# Altium footprint library PcbLib1.PcbLib: 53 footprints (part 1 of 4)
Each footprint in its own frame and in the unit in brackets; x right, y up, seen from the top. Pads: shape width x height; smd on the part's side, far side on the other; paste and mask are expansions set on the pad; w line width, h text height; cw(c..) or ccw(c..) is an arc to the next point about the centre after c.
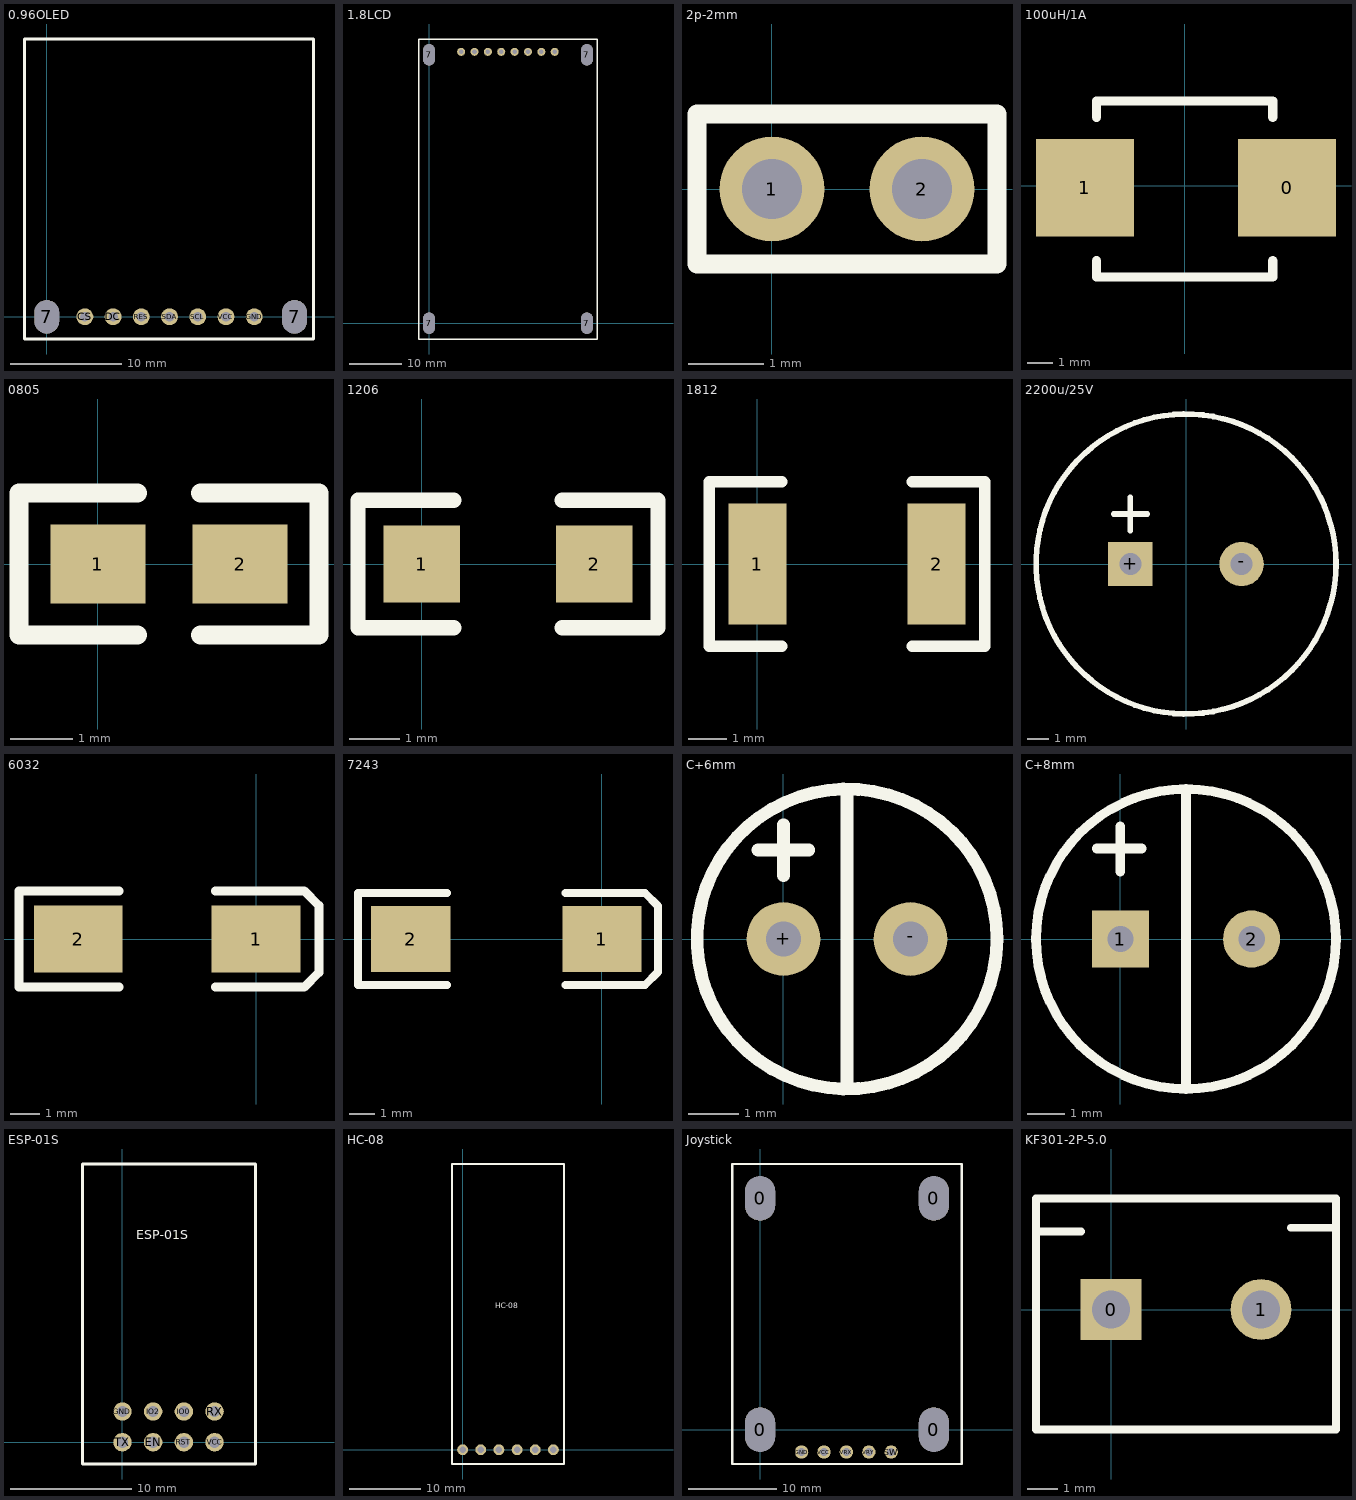
[diagram p0: the footprints below, top view; thin cyan lines are the x and y axes]

## 0.96OLED [mil]
pads (9):
  oval 86.61x118.11 hole 86.61 slot 118.11 at 90 deg: 7(0,0) 7(877.95,0)
  round 60 hole 34: CS(135,0) DC(235,0) GND(735,0) RES(335,0) SCL(535,0) SDA(435,0) VCC(635,0)
Top Overlay:
  lines w10: -78.74,-78.74 -78.74,984.25 944.88,984.25 944.88,-78.74 -78.74,-78.74

## 1.8LCD [mil]
pads (12):
  oval 86.61x157.48 hole 86.61 slot 157.48 at 90 deg: 7(0,0) 7(0,2007.87) 7(1181.1,0) 7(1181.1,2007.87)
  round 60 hole 34: BK(940,2030) CS(840,2030) DC(740,2030) GND(240,2030) RES(640,2030) SCL(440,2030) SDA(540,2030) VCC(340,2030)
Top Overlay:
  lines w10: -78.74,-118.11 -78.74,2125.98 1259.84,2125.98 1259.84,-118.11 -78.74,-118.11

## 2p-2mm [mm]
pads (2):
  round 1.4 hole 0.8: 1(0,0) 2(2,0)
Top Overlay:
  lines w0.254: -1,-1 3,-1 3,1 -1,1 -1,-1

## 100uH/1A [mil]
pads (2):
  rect 150x150 smd: 0(157,-3) 1(-153,-3)
Top Overlay:
  lines w14: -135,-115 -135,-140 135,-140 135,-115 ; -135,105 -135,130 135,130 135,105

## 0805 [mil]
height 100
pads (2):
  rect 60x50 smd: 1(0,0) 2(90,0)
Top Overlay:
  lines w12: 25,-45 -50,-45 -50,45 25,45 ; 65,-45 140,-45 140,45 65,45

## 1206 [mil]
pads (2):
  rect 60x60 smd: 1(0,0) 2(135,0)
Top Overlay:
  lines w12: 25,-50 -50,-50 -50,50 25,50 ; 110,-50 185,-50 185,50 110,50

## 1812 [mil]
pads (2):
  rect 60x125 smd: 1(0,0) 2(185,0)
Top Overlay:
  lines w12: 25,-85 -50,-85 -50,85 25,85 ; 160,-85 235,-85 235,85 160,85

## 2200u/25V [mil]
height 80
pads (2):
  rect 80x80 hole 40: +(-100,0)
  round 80 hole 40: -(100,0)
Top Overlay:
  circle w10: c0,0 r270
  lines w10: -130,90 -70,90 ; -100,60 -100,120

## 6032 [mil]
pads (2):
  rect 120x90 smd: 1(0,0) 2(-240,0)
Top Overlay:
  lines w12: -185,-65 -320,-65 -320,65 -185,65 ; -55,-65 65,-65 85,-45 85,45 65,65 -55,65

## 7243 [mil]
pads (2):
  rect 120x100 smd: 1(0,0) 2(-290,0)
Top Overlay:
  lines w12: -235,-70 -370,-70 -370,70 -235,70 ; -55,-70 65,-70 85,-50 85,50 65,70 -55,70

## C+6mm [mil]
pads (2):
  round 58 hole 27.56: +(0,0) -(100,0)
Top Overlay:
  circle w10: c50,0 r118.11
  lines w10: -20,70 20,70 ; 0,50 0,90 ; 50,-115 50,115

## C+8mm [mil]
pads (2):
  rect 60x60 hole 27.56: 1(0,0)
  round 60 hole 27.56: 2(137.8,0)
Top Overlay:
  circle w10: c68.9,0 r157.48
  lines w10: -25,95 22.24,95 ; 0,70.87 0,118.11 ; 68.9,-157.48 68.9,157.48

## ESP-01S [mil]
pads (8):
  round 60 hole 36: EN(100,0) GND(0,100) IO0(200,100) IO2(100,100) RST(200,0) RX(300,100) TX(0,0) VCC(300,0)
Top Overlay:
  lines w10: -129.92,-70.87 -129.92,905.51 433.07,905.51 433.07,-70.87 -129.92,-70.87
  text "ESP-01S" at 45,660 h30

## HC-08 [mil]
pads (6):
  round 60 hole 36: GND(300,0) KEY(500,0) RXD(100,0) STA(0,0) TXD(200,0) VCC(400,0)
Top Overlay:
  lines w10: -59.06,-78.74 559.06,-78.74 559.06,1574.8 -59.06,1574.8 -59.06,-78.74
  text "HC-08" at 180,780 h30

## Joystick [mil]
pads (9):
  oval 133.86x196.85 hole 133.86 slot 196.85 at 90 deg: 0(0,0) 0(0,1031.5) 0(775.59,0) 0(775.59,1031.5)
  round 60 hole 36: GND(185,-100) SW(585,-100) VCC(285,-100) VRX(385,-100) VRY(485,-100)
Top Overlay:
  lines w10: -124.02,-153.54 -124.02,1185.04 899.61,1185.04 899.61,-153.54 -124.02,-153.54

## KF301-2P-5.0 [mil]
pads (2):
  rect 80x80 hole 50: 0(0,0)
  round 80 hole 50: 1(196.85,0)
Top Overlay:
  lines w10: -98.43,102.36 -39.37,102.36 ; 236.22,107.36 295.28,107.36 ; -98.43,-157.48 -98.43,145.67 295.28,145.67 295.28,-157.48 -98.43,-157.48